# EAGLE library part SR4X3 (library divers)
Rotary Switch 4*3 The dot in the symbol denotes the leftmost contact of the rotary switch (counterclockwise limit)
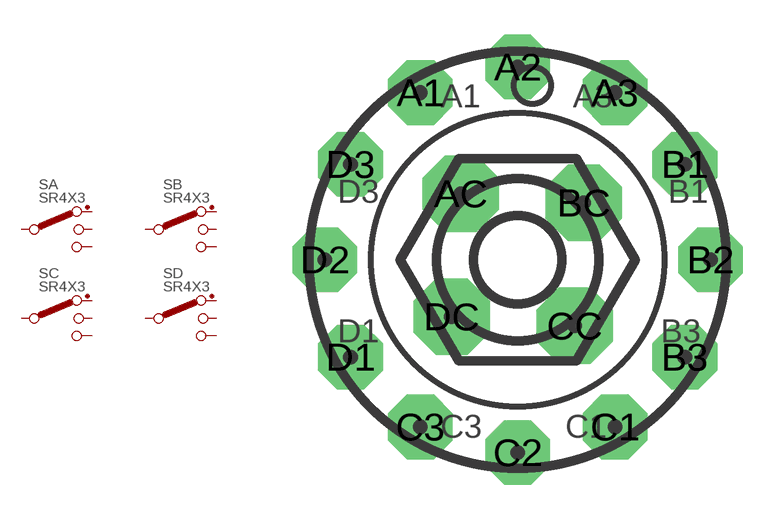
[diagram p15: symbol with the pads of SR4X3A; footprint SR4X3A]

Designator prefix S; gates A=SR1X3 B=SR1X3 C=SR1X3 D=SR1X3

## SR4X3  [SR4X3A]
A1  A:1
A2  A:2
A3  A:3
AC  A:C
B1  B:1
B2  B:2
B3  B:3
BC  B:C
C1  C:1
C2  C:2
C3  C:3
CC  C:C
D1  D:1
D2  D:2
D3  D:3
DC  D:C

## Footprint SR4X3A (pad centres in mm)
Rotary Switch 4*3 (18mm) - ELMA Typ 1
drill 1.295 pad 2.794 octagon: A1 -4.207,7.223; A2 0,8.334; A3 4.207,7.223; B1 7.223,4.128; B2 8.334,0; B3 7.223,-4.207; C1 4.207,-7.223; C2 0,-8.334; C3 -4.207,-7.223; D1 -7.223,-4.207; D2 -8.334,0; D3 -7.223,4.128
drill 1.499 pad 3.302 octagon: AC -2.461,2.857; BC 2.857,2.461; CC 2.461,-2.857; DC -2.857,-2.461